# EAGLE library part EP1C12-CONF-* (library mita-akiba)
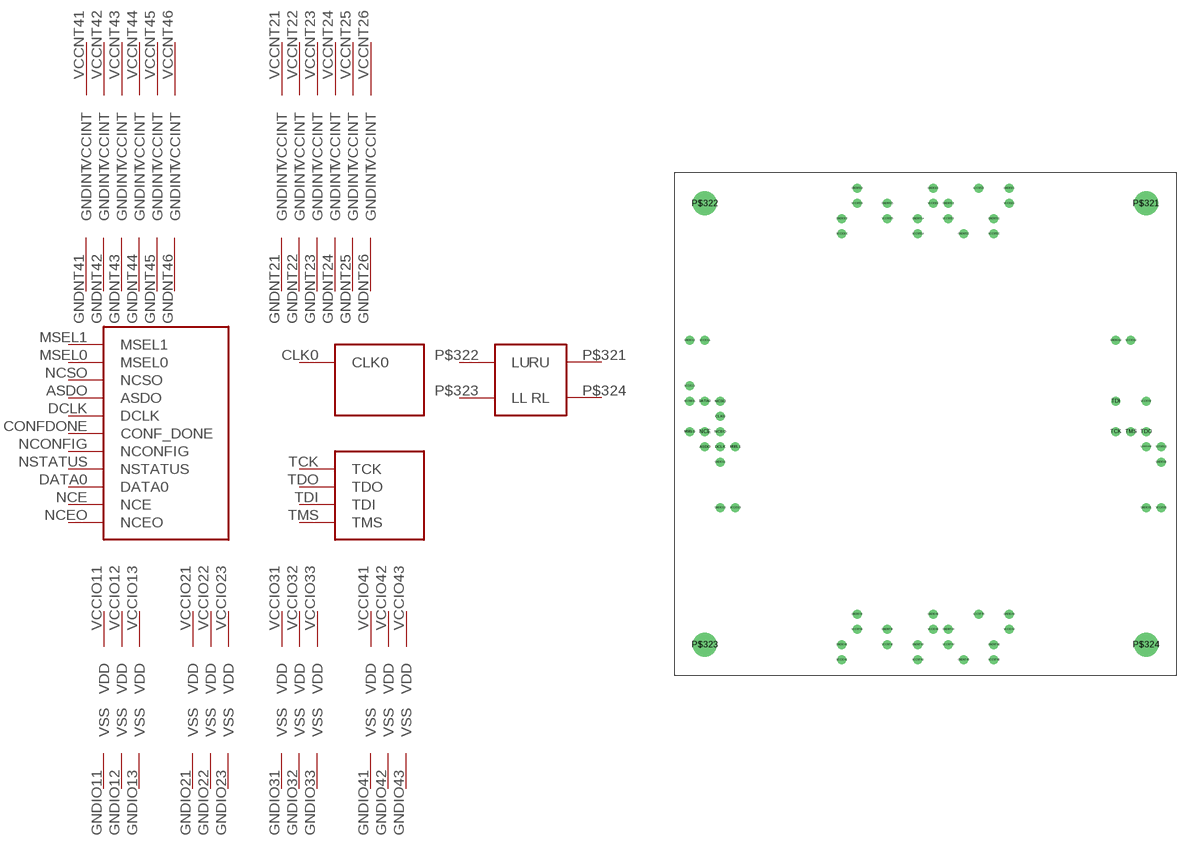
[diagram p17: symbol with the pads of EP1C12RC24CONF; footprint EP1C12RC24CONF]

Designator prefix -; gates -2=CYCLONECLK -3=JTAGIO -B11=VDDVSS -B12=VDDVSS -B13=VDDVSS -B21=VDDVSS -B22=VDDVSS -B23=VDDVSS -B31=VDDVSS -B32=VDDVSS -B33=VDDVSS -B41=VDDVSS -B42=VDDVSS -B43=VDDVSS -C41=VCCINTVSS -C42=VCCINTVSS -C43=VCCINTVSS -C44=VCCINTVSS -C45=VCCINTVSS -C46=VCCINTVSS -C21=VCCINTVSS -C22=VCCINTVSS -C23=VCCINTVSS -C24=VCCINTVSS -C25=VCCINTVSS -C26=VCCINTVSS -4=QFP52PADS -1=CONFPS-CYCLONE

## EP1C12-CONF-QFP52  [EP1C12RC24CONF]
ASDO  -1:ASDO  pwr
CLK0  -2:CLK0
CONFDONE  -1:CONF_DONE
DATA0  -1:DATA0
DCLK  -1:DCLK
GNDIO11  -B11:VSS  pwr
GNDIO12  -B12:VSS  pwr
GNDIO13  -B13:VSS  pwr
GNDIO21  -B21:VSS  pwr
GNDIO22  -B22:VSS  pwr
GNDIO23  -B23:VSS  pwr
GNDIO31  -B31:VSS  pwr
GNDIO32  -B32:VSS  pwr
GNDIO33  -B33:VSS  pwr
GNDIO41  -B41:VSS  pwr
GNDIO42  -B42:VSS  pwr
GNDIO43  -B43:VSS  pwr
GNDNT21  -C21:GNDINT  pwr
GNDNT22  -C22:GNDINT  pwr
GNDNT23  -C23:GNDINT  pwr
GNDNT24  -C24:GNDINT  pwr
GNDNT25  -C25:GNDINT  pwr
GNDNT26  -C26:GNDINT  pwr
GNDNT41  -C41:GNDINT  pwr
GNDNT42  -C42:GNDINT  pwr
GNDNT43  -C43:GNDINT  pwr
GNDNT44  -C44:GNDINT  pwr
GNDNT45  -C45:GNDINT  pwr
GNDNT46  -C46:GNDINT  pwr
MSEL0  -1:MSEL0
MSEL1  -1:MSEL1
NCE  -1:NCE
NCEO  -1:NCEO
NCONFIG  -1:NCONFIG
NCSO  -1:NCSO  pwr
NSTATUS  -1:NSTATUS
P$321  -4:RU
P$322  -4:LU
P$323  -4:LL
P$324  -4:RL
TCK  -3:TCK
TDI  -3:TDI
TDO  -3:TDO
TMS  -3:TMS
VCCIO11  -B11:VDD  pwr
VCCIO12  -B12:VDD  pwr
VCCIO13  -B13:VDD  pwr
VCCIO21  -B21:VDD  pwr
VCCIO22  -B22:VDD  pwr
VCCIO23  -B23:VDD  pwr
VCCIO31  -B31:VDD  pwr
VCCIO32  -B32:VDD  pwr
VCCIO33  -B33:VDD  pwr
VCCIO41  -B41:VDD  pwr
VCCIO42  -B42:VDD  pwr
VCCIO43  -B43:VDD  pwr
VCCNT21  -C21:VCCINT  pwr
VCCNT22  -C22:VCCINT  pwr
VCCNT23  -C23:VCCINT  pwr
VCCNT24  -C24:VCCINT  pwr
VCCNT25  -C25:VCCINT  pwr
VCCNT26  -C26:VCCINT  pwr
VCCNT41  -C41:VCCINT  pwr
VCCNT42  -C42:VCCINT  pwr
VCCNT43  -C43:VCCINT  pwr
VCCNT44  -C44:VCCINT  pwr
VCCNT45  -C45:VCCINT  pwr
VCCNT46  -C46:VCCINT  pwr

## Footprint EP1C12RC24CONF (pad centres in mm)
drill 0.9 pad 1.5: ASDO -36.83,-3.81; CLK0 -34.29,1.27; CONFDONE 36.83,-3.81; DATA0 -36.83,3.81; DCLK -34.29,-3.81; GNDIO11 -39.37,13.97; GNDIO12 -34.29,-6.35; GNDIO13 -34.29,-13.97; GNDIO21 13.97,39.37; GNDIO22 1.27,39.37; GNDIO23 -13.97,34.29; GNDIO31 36.83,-13.97; GNDIO32 39.37,-6.35; GNDIO33 31.75,13.97; GNDIO41 -13.97,-36.83; GNDIO42 1.27,-31.75; GNDIO43 13.97,-31.75; GNDNT21 11.43,34.29; GNDNT22 6.35,31.75; GNDNT23 3.81,36.83; GNDNT24 -1.27,34.29; GNDNT25 -6.35,36.83; GNDNT26 -11.43,39.37; GNDNT41 -11.43,-31.75; GNDNT42 -6.35,-34.29; GNDNT43 -1.27,-36.83; GNDNT44 3.81,-34.29; GNDNT45 6.35,-39.37; GNDNT46 11.43,-36.83; MSEL0 -39.37,-1.27; MSEL1 -31.75,-3.81; NCE -36.83,-1.27; NCEO -34.29,-1.27; NCONFIG -39.37,3.81; NCSO -34.29,3.81; NSTATUS 39.37,-3.81; TCK 31.75,-1.27; TDI 31.75,3.81; TDO 36.83,-1.27; TMS 34.29,-1.27; VCCIO11 -36.83,13.97; VCCIO12 -39.37,6.35; VCCIO13 -31.75,-13.97; VCCIO21 13.97,36.83; VCCIO22 1.27,36.83; VCCIO23 -13.97,31.75; VCCIO31 39.37,-13.97; VCCIO32 36.83,3.81; VCCIO33 34.29,13.97; VCCIO41 -13.97,-39.37; VCCIO42 1.27,-34.29; VCCIO43 13.97,-34.29; VCCNT21 11.43,31.75; VCCNT22 8.89,39.37; VCCNT23 3.81,34.29; VCCNT24 -1.27,31.75; VCCNT25 -6.35,34.29; VCCNT26 -11.43,36.83; VCCNT41 -11.43,-34.29; VCCNT42 -6.35,-36.83; VCCNT43 -1.27,-39.37; VCCNT44 3.81,-36.83; VCCNT45 8.89,-31.75; VCCNT46 11.43,-39.37
drill 3 pad 4: P$321 36.83,36.83; P$322 -36.83,36.83; P$323 -36.83,-36.83; P$324 36.83,-36.83